# Altium schematic symbol library EEG_Sch_LIb.SchLib: 1 symbol
Pins are listed as number, name and electrical type; pins without a type are passive.

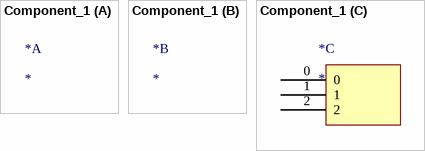
[diagram p0: symbol Component_1]

## Component_1
designator *
part C pins: 0, 1, 2